# EAGLE library part TS3USB221 (library card)
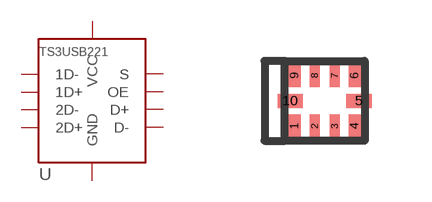
[diagram p1: symbol with the pads of 10-PIN-UQFN; footprint 10-PIN-UQFN]

Designator prefix U

## TS3USB221  [10-PIN-UQFN]
1  1D+
2  1D-
3  2D+
4  2D-
5  GND
6  OE
7  D-
8  D+
9  S
10  VCC

## Footprint 10-PIN-UQFN (pad centres in mm)
smd 0.3 x 0.58: 1 -0.75,-0.635; 4 0.75,-0.635; 6 0.75,0.635; 9 -0.75,0.635
smd 0.25 x 0.58: 2 -0.25,-0.635; 3 0.25,-0.635; 7 0.25,0.635; 8 -0.25,0.635
smd 0.63 x 0.35: 5 0.86,0; 10 -0.86,0